# EAGLE library part ETHERNET_JACK (library Icotech_Eagle_Library)
Ethernet Jack with Integrated Magnetics The Belfuse SI-60021 (Rapid order code 24-0484) is a single RJ-45 jack with integrated magnetics, suitable for Ethernet use. Careful with substituting for this part. There are many parts with the same outline but every maufacturer seeems to have their own pinout. Be sure to confirm pinout.
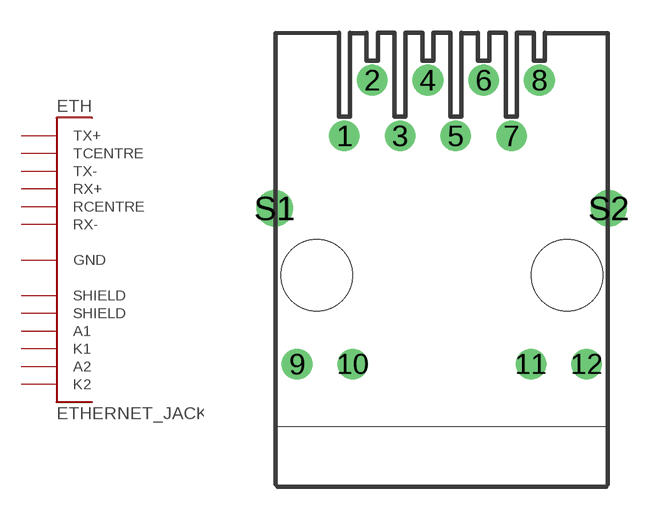
[diagram p16: symbol with the pads of SI40138; footprint SI40138]

Designator prefix ETH

## ETHERNET_JACK  [SI40138]
1  TX+  in
2  TCENTRE  pas
3  TX-  in
4  RX+  out
5  RCENTRE  pas
6  RX-  out
8  GND  pwr
9  A1  in
10  K1  out
11  A2  in
12  K2  out
S1  SHIELD
S2  SHIELD

## Footprint SI40138 (pad centres in mm)
RJ-45 Jack with Integrated Magnetics This RJ-45 jack has integrated magnetics suitable for use with Ethernet.
drill 0.889: 1 -4.445,6.35; 2 -3.175,8.89; 3 -1.905,6.35; 4 -0.635,8.89; 5 0.635,6.35; 6 1.905,8.89; 7 3.175,6.35; 8 4.445,8.89; 9 -6.604,-4.064; 10 -4.064,-4.064; 11 4.064,-4.064; 12 6.604,-4.064
drill 1.1: S1 -7.62,3.048; S2 7.62,3.048
hole 3.251 at -5.715,0
hole 3.251 at 5.715,0